# Altium schematic symbol library F861BB104M310A.SchLib: 1 symbol
Pins are listed as number, name and electrical type; pins without a type are passive.

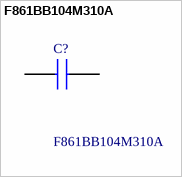
[diagram p0: symbol F861BB104M310A]

## F861BB104M310A
designator C?
F861, Film, Metallized Polypropylene, Safety, 0.1 uF, 20%, 310 VAC, 310 VAC (X2), 310 VAC, 630 VDC, 110C, -40C, 110C, 0.3 % , 30 GOhms, 400 V/us, 2, 1.239 g, 18mm, 10mm, 4mm, Lead Spacing = 15mm, 1500, 104  Weeks; Manufacturer_Name: KEMET; Mouser Part Number: *; Mouser Price/Stock: *; Manufacturer_Part_Number: F861BB104M310A; Datasheet Link: https://content.kemet.com/datasheets/KEM_F3001_F861_X2_310.pdf; Geometry.Height: 10mm
footprint F861BB104M310A
pins: 1, 2